# Altium footprint library CON-ILUMINATION.PCBLIB: 16 footprints
Each footprint in its own frame and in the unit in brackets; x right, y up, seen from the top. Pads: shape width x height; smd on the part's side, far side on the other; paste and mask are expansions set on the pad; w line width, h text height; cw(c..) or ccw(c..) is an arc to the next point about the centre after c.
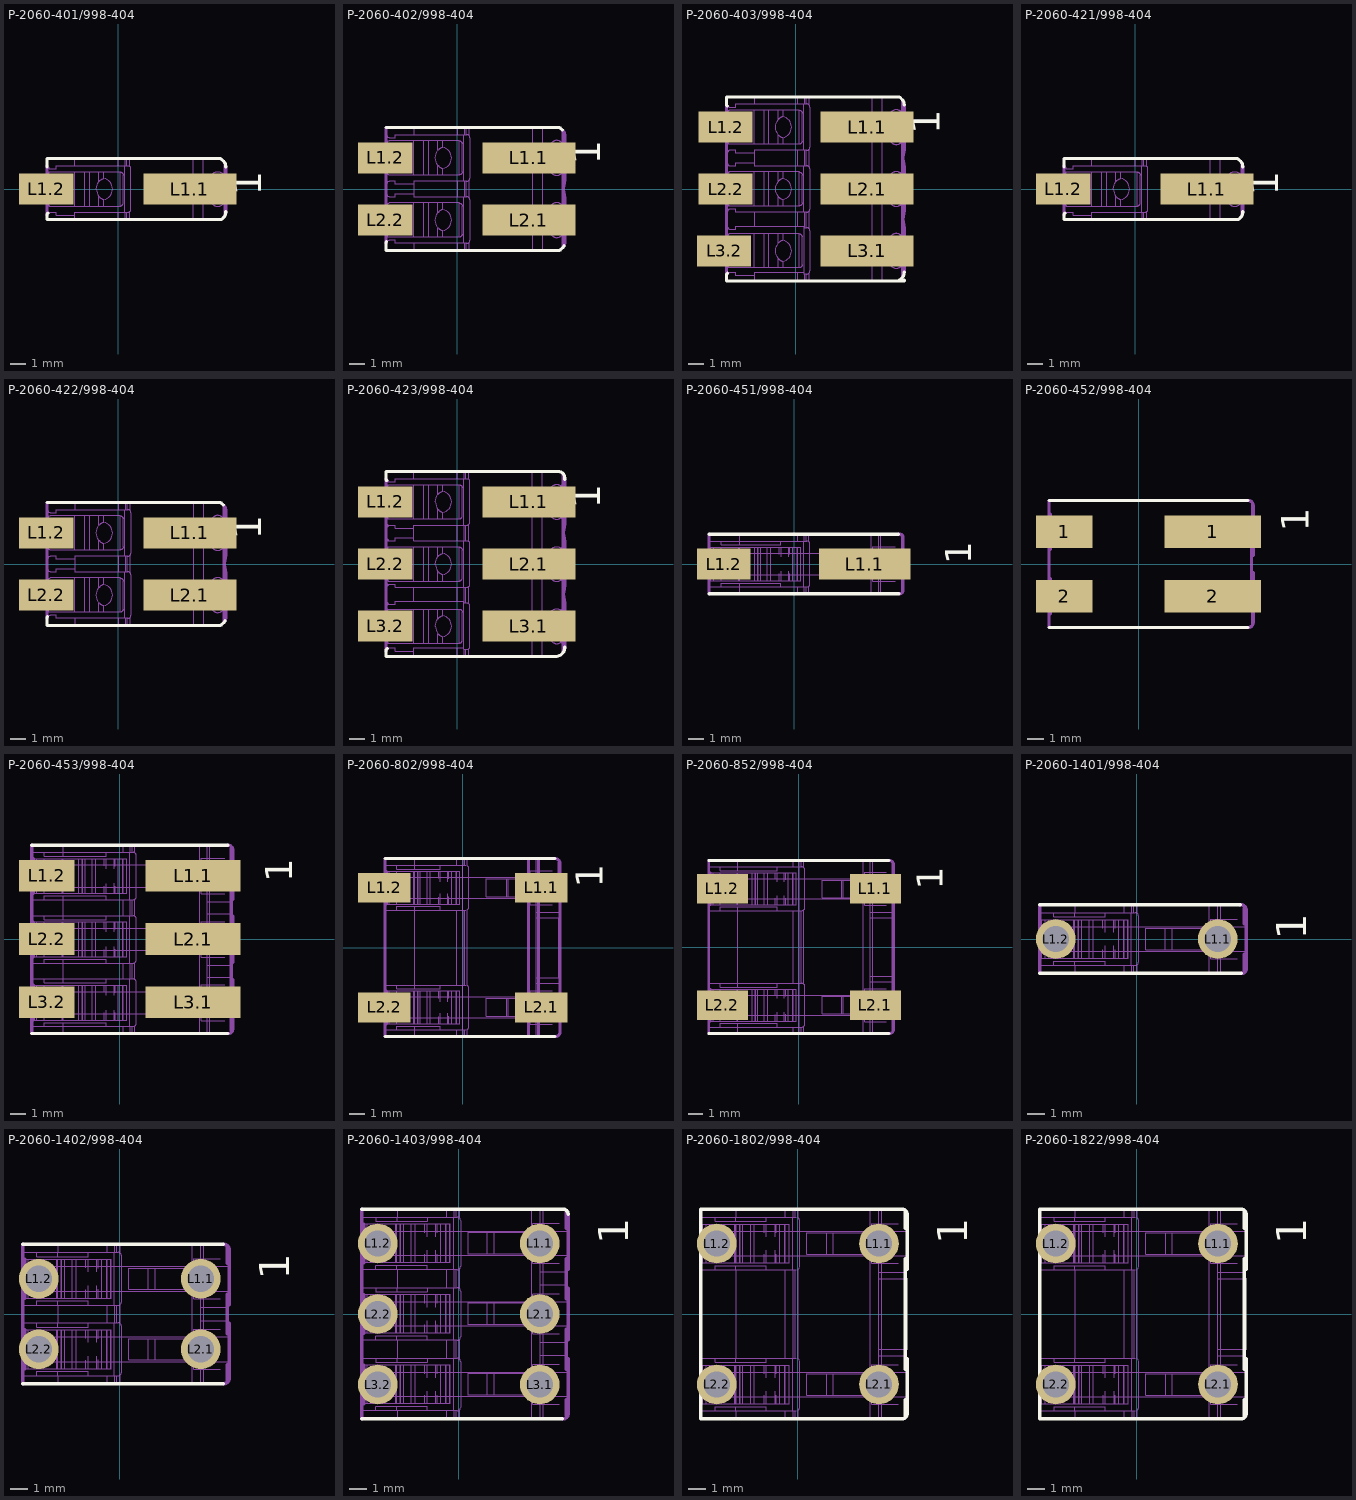
[diagram p0: the footprints below, top view; thin cyan lines are the x and y axes]

## P-2060-401/998-404 [mm]
pads (2):
  rect 6x2 smd: L1.1(4.625,0)
  rect 3.5x2 smd: L1.2(-4.625,0)
Top Overlay:
  lines w0.01: -4.563,1.432 -4.557,1.417 -4.55,1.403
  lines w0.2: -4.563,1.432 -4.568,1.447 -4.57,1.455 -4.571,1.462 -4.574,1.478 -4.575,1.493 -4.575,1.5 -4.575,1.95 6.6,1.95 6.639,1.921 6.716,1.857 6.789,1.784 6.824,1.745 6.831,1.738 6.841,1.724 6.852,1.709 6.856,1.702 6.861,1.695 6.87,1.68 6.878,1.664 6.886,1.647 6.893,1.63 6.899,1.613 6.901,1.604 6.904,1.595 6.909,1.577 6.913,1.558 6.917,1.539 6.919,1.52 6.922,1.5 6.923,1.49 6.923,1.48 6.924,1.46 6.925,1.44 6.925,1.43 ; -4.507,-1.55 -4.52,-1.562 -4.526,-1.568 -4.531,-1.575 -4.541,-1.589 -4.55,-1.602 -4.557,-1.617 -4.563,-1.632 -4.568,-1.647 -4.57,-1.655 -4.571,-1.662 -4.574,-1.678 -4.575,-1.693 -4.575,-1.7 -4.575,-1.95 6.664,-1.95 6.692,-1.926 6.746,-1.875 6.799,-1.819 6.824,-1.789 6.831,-1.782 6.841,-1.767 6.852,-1.753 6.856,-1.745 6.861,-1.738 6.87,-1.722 6.878,-1.706 6.886,-1.689 6.893,-1.671 6.899,-1.654 6.902,-1.644 6.904,-1.635 6.909,-1.616 6.913,-1.597 6.917,-1.578 6.92,-1.558 6.922,-1.538 6.923,-1.527 6.923,-1.517 6.924,-1.497 6.925,-1.477 6.925,-1.466
  text "1" at 9.825,-0.45 h3.1
Mechanical 16:
  drawing of 700 lines, arcs and shapes, not listed

## P-2060-402/998-404 [mm]
pads (4):
  rect 6x2 smd: L1.1(4.625,2) L2.1(4.625,-2)
  rect 3.5x2 smd: L1.2(-4.625,2) L2.2(-4.625,-2)
Top Overlay:
  lines w0.2: -4.575,3.95 6.6,3.95 6.639,3.921 6.716,3.857 6.789,3.784 ; -4.531,-3.375 -4.541,-3.388 -4.55,-3.403 -4.557,-3.417 -4.563,-3.432 -4.568,-3.447 -4.57,-3.455 -4.571,-3.463 -4.574,-3.478 -4.575,-3.492 -4.575,-3.5 -4.575,-3.95 6.6,-3.95 6.639,-3.921 6.716,-3.857 6.789,-3.784 6.824,-3.745 6.831,-3.738 6.841,-3.724 6.852,-3.709 6.856,-3.702 6.861,-3.695 6.87,-3.68 6.878,-3.664 6.886,-3.647
  text "1" at 9.825,1.55 h3.1
Mechanical 16:
  drawing of 1592 lines, arcs and shapes, not listed

## P-2060-403/998-404 [mm]
pads (6):
  rect 6x2 smd: L1.1(4.625,4) L2.1(4.625,0) L3.1(4.625,-4)
  rect 3.5x2 smd: L1.2(-4.525,4) L2.2(-4.525,0) L3.2(-4.625,-4)
Top Overlay:
  lines w0.2: -4.42,5.362 -4.425,5.368 -4.431,5.375 -4.441,5.388 -4.45,5.403 -4.457,5.417 -4.463,5.432 -4.468,5.447 -4.47,5.455 -4.471,5.463 -4.474,5.478 -4.475,5.492 -4.475,5.5 -4.475,5.95 6.701,5.95 6.739,5.921 6.815,5.857 6.889,5.784 6.925,5.745 6.93,5.738 6.942,5.724 6.952,5.709 6.956,5.702 6.961,5.695 6.97,5.68 6.978,5.664 6.986,5.647 6.993,5.63 6.999,5.613 7.002,5.604 7.004,5.595 7.009,5.577 7.013,5.558 7.017,5.539 7.02,5.52 7.022,5.5 7.023,5.49 7.023,5.48 7.024,5.46 7.025,5.44 7.025,5.43 ; -4.393,-5.439 -4.407,-5.45 -4.42,-5.462 -4.425,-5.468 -4.431,-5.475 -4.441,-5.488 -4.45,-5.502 -4.457,-5.517 -4.463,-5.532 -4.468,-5.547 -4.47,-5.555 -4.471,-5.562 -4.474,-5.578 -4.475,-5.593 -4.475,-5.6 -4.475,-5.95 7.025,-5.95 7.025,-5.9 6.701,-5.9 6.739,-5.87 6.816,-5.804 6.889,-5.729 6.925,-5.689 6.93,-5.682 6.942,-5.668 6.952,-5.653 6.956,-5.645 6.961,-5.638 6.97,-5.622 6.978,-5.606 6.986,-5.589 6.993,-5.571 6.999,-5.553 7.002,-5.544 7.004,-5.535 7.009,-5.516 7.013,-5.497 7.017,-5.478 7.02,-5.458 7.022,-5.438 7.023,-5.427 7.023,-5.417 7.024,-5.397 7.025,-5.376 7.025,-5.366 ; 6.925,-5.95 6.925,-5.9
  text "1" at 9.925,3.55 h3.1
Mechanical 16:
  drawing of 2369 lines, arcs and shapes, not listed

## P-2060-421/998-404 [mm]
pads (2):
  rect 6x2 smd: L1.1(4.625,0)
  rect 3.5x2 smd: L1.2(-4.625,0)
Top Overlay:
  lines w0.01: -4.563,1.432 -4.557,1.417 -4.55,1.403
  lines w0.2: -4.563,1.432 -4.568,1.447 -4.57,1.455 -4.571,1.462 -4.574,1.478 -4.575,1.493 -4.575,1.5 -4.575,1.95 6.6,1.95 6.639,1.921 6.716,1.857 6.789,1.784 6.824,1.745 6.831,1.738 6.841,1.724 6.852,1.709 6.856,1.702 6.861,1.695 6.87,1.68 6.878,1.664 6.886,1.647 6.893,1.63 6.899,1.613 6.901,1.604 6.904,1.595 6.909,1.577 6.913,1.558 6.917,1.539 6.919,1.52 6.922,1.5 6.923,1.49 6.923,1.48 6.924,1.46 6.925,1.44 6.925,1.43 ; -4.507,-1.55 -4.52,-1.562 -4.526,-1.568 -4.531,-1.575 -4.541,-1.589 -4.55,-1.602 -4.557,-1.617 -4.563,-1.632 -4.568,-1.647 -4.57,-1.655 -4.571,-1.662 -4.574,-1.678 -4.575,-1.693 -4.575,-1.7 -4.575,-1.95 6.664,-1.95 6.692,-1.926 6.746,-1.875 6.799,-1.819 6.824,-1.789 6.831,-1.782 6.841,-1.767 6.852,-1.753 6.856,-1.745 6.861,-1.738 6.87,-1.722 6.878,-1.706 6.886,-1.689 6.893,-1.671 6.899,-1.654 6.902,-1.644 6.904,-1.635 6.909,-1.616 6.913,-1.597 6.917,-1.578 6.92,-1.558 6.922,-1.538 6.923,-1.527 6.923,-1.517 6.924,-1.497 6.925,-1.477 6.925,-1.466
  text "1" at 9.825,-0.45 h3.1
Mechanical 16:
  drawing of 700 lines, arcs and shapes, not listed

## P-2060-422/998-404 [mm]
pads (4):
  rect 6x2 smd: L1.1(4.625,2) L2.1(4.625,-2)
  rect 3.5x2 smd: L1.2(-4.625,2) L2.2(-4.625,-2)
Top Overlay:
  lines w0.2: -4.575,3.95 6.6,3.95 6.639,3.921 6.716,3.857 6.789,3.784 ; -4.531,-3.375 -4.541,-3.388 -4.55,-3.403 -4.557,-3.417 -4.563,-3.432 -4.568,-3.447 -4.57,-3.455 -4.571,-3.463 -4.574,-3.478 -4.575,-3.492 -4.575,-3.5 -4.575,-3.95 6.6,-3.95 6.639,-3.921 6.716,-3.857 6.789,-3.784 6.824,-3.745 6.831,-3.738 6.841,-3.724 6.852,-3.709 6.856,-3.702 6.861,-3.695 6.87,-3.68 6.878,-3.664 6.886,-3.647
  text "1" at 9.825,1.55 h3.1
Mechanical 16:
  drawing of 1592 lines, arcs and shapes, not listed

## P-2060-423/998-404 [mm]
pads (6):
  rect 6x2 smd: L1.1(4.625,4) L2.1(4.625,0) L3.1(4.625,-4)
  rect 3.5x2 smd: L1.2(-4.625,4) L2.2(-4.625,0) L3.2(-4.625,-4)
Top Overlay:
  lines w0.2: -4.52,5.362 -4.526,5.368 -4.531,5.375 -4.541,5.388 -4.55,5.403 -4.557,5.417 -4.563,5.432 -4.568,5.447 -4.57,5.455 -4.571,5.463 -4.574,5.478 -4.575,5.492 -4.575,5.5 -4.575,5.95 6.525,5.95 cw(c6.525,5.55) 6.925,5.55 6.925,5.45 ; -4.493,-5.439 -4.507,-5.45 -4.52,-5.462 -4.526,-5.468 -4.531,-5.475 -4.541,-5.488 -4.55,-5.502 -4.557,-5.517 -4.563,-5.532 -4.568,-5.547 -4.57,-5.555 -4.571,-5.562 -4.574,-5.578 -4.575,-5.593 -4.575,-5.6 -4.575,-5.95 6.325,-5.95 ccw(c6.325,-5.35) 6.925,-5.35 ; 6.716,-5.804 6.789,-5.729 6.824,-5.689 6.831,-5.682 6.841,-5.668 6.852,-5.653 6.856,-5.645 6.861,-5.638 6.87,-5.622 6.878,-5.606 6.886,-5.589 6.893,-5.571 6.899,-5.553 6.902,-5.544 6.904,-5.535 6.909,-5.516 6.913,-5.497 6.917,-5.478 6.92,-5.458 6.922,-5.438 6.923,-5.427 6.923,-5.417 6.924,-5.397 6.925,-5.376 6.925,-5.366 ; 6.922,5.5 6.923,5.49 6.923,5.48 6.924,5.46 6.925,5.44 6.925,5.43
  text "1" at 9.825,3.55 h3.1
Mechanical 16:
  drawing of 2363 lines, arcs and shapes, not listed

## P-2060-451/998-404 [mm]
pads (2):
  rect 6x2 smd: L1.1(4.625,0)
  rect 3.5x2 smd: L1.2(-4.625,0)
Top Overlay:
  lines w0.2: -5.575,-1.95 6.864,-1.95 ; -5.575,1.95 6.8,1.95 ; 6.815,1.95 6.835,1.95
  text "1" at 11.575,0 h1.7
Mechanical 16:
  lines w0.01: -5.825,-0.6 -5.825,0.6 ; -5.575,-1.5 -4.775,-1.5 ; -5.575,-0.7 7.125,-0.7 ; -5.575,-0.6 -3.714,-0.6 -3.714,0.6 -5.575,0.6 ; -5.575,0.7 7.125,0.7 ; -5.575,1.5 -4.775,1.5 ; -5.275,-1.1 -5.275,1.1 ; -4.775,-1.1 -4.775,1.1 ; -4.275,-0.6 -4.275,0.6 ; -3.747,-0.6 -3.747,0.6 ; -3.634,-1.1 -3.634,1.1 ; -3.599,-1.1 -3.599,1.1 ; -3.59,-1.25 -3.59,-1.5 ; -3.59,-1.1 -3.59,1.1 ; -3.59,1.25 -3.59,1.5 ; -3.575,-1.95 -3.575,-1.5 ; -3.575,1.5 -3.575,1.95 ; -2.592,-1.1 -2.592,1.1 ; -2.382,-1.1 -2.382,1.1 ; -2.353,-1.1 -2.353,1.1 ; -2.21,-1.1 -2.21,1.1 ; -1.759,-1.1 -1.759,1.1 ; -1.54,1.1 -1.54,-1.1 ; -0.992,-0.647 -0.992,-1.1 ; -0.992,0.647 -0.992,1.1 ; -0.873,-1.1 -0.873,-0.47 ; -0.873,0.47 -0.873,1.1 ; -0.374,-1.1 -0.374,-0.469 ; -0.374,0.469 -0.374,1.1 ; -0.296,-1.1 -0.296,-0.634 ; -0.296,0.634 -0.296,1.1 ; -0.111,-1.1 -0.111,1.1 ; 0.183,-1.1 0.183,1.1 ; 0.212,-1.1 0.212,1.1 ; 0.219,-1.95 0.219,-1.5 ; 0.219,1.5 0.219,1.95 ; 0.423,1.1 0.423,-1.1 ; 0.625,-1.5 0.625,1.5 ; 0.652,-1.95 0.652,-1.5 ; 0.652,1.5 0.652,1.95 ; 0.767,-1.95 0.767,-1.5 ; 0.767,1.5 0.767,1.95 ; 0.941,-1.95 0.941,-1.463 ; 0.941,1.95 0.941,1.463 ; 3.574,0.6 3.574,-0.6 ; 3.679,0.6 3.679,-0.6 ; 5.025,-1.95 5.025,1.95 ; 5.525,-1.95 5.525,-0.7 ; 5.525,0.7 5.525,1.95 ; 5.675,-1.95 5.675,1.95 ; 6.613,-1.125 5.125,-1.125 5.125,1.125 6.613,1.125 ; 6.835,1.95 cw(c6.835,1.76) 7.025,1.76 ; 6.875,-1.95 ccw(c6.875,-1.8) 7.025,-1.8 ; 6.975,0.6 6.975,-0.6 ; 7.025,-1.789 7.025,-0.87 ; 7.025,0.87 7.025,1.745 ; 7.125,-0.6 6.975,-0.6 ; 7.125,0.6 2.208,0.6 2.208,-0.6 3.574,-0.6 ; -4.775,-1.5 -3.59,-1.5 ; -4.775,-1.5 -4.775,-1.25 -0.875,-1.25 -0.875,-1.5 ; -4.775,1.5 -3.59,1.5 ; -4.775,1.5 -4.775,1.25 -0.875,1.25 -0.875,1.5 ; -3.59,-1.5 -0.875,-1.5 ; -3.59,1.5 -0.875,1.5 ; -1.54,-1.1 -0.992,-1.1 ; -1.54,-1.1 -5.475,-1.1 -5.475,1.1 -0.992,1.1 ; -0.992,-1.1 0.423,-1.1 ; -0.992,1.1 0.433,1.1 0.433,-1.1 0.423,-1.1 ; -0.875,-1.5 0.825,-1.5 ccw(c0.825,-1.3) 0.941,-1.463 ; -0.875,1.5 0.825,1.5 cw(c0.825,1.3) 0.941,1.463 ; 0.941,-1.463 ccw(c0.825,-1.3) 1.025,-1.3 ; 0.941,-1.463 ccw(c0.825,-1.3) 1.025,-1.3 ; 0.941,1.463 cw(c0.825,1.3) 1.025,1.3 ; 0.941,1.463 cw(c0.825,1.3) 1.025,1.3 ; 1.025,-1.3 1.025,1.3 ; 3.574,-0.6 3.679,-0.6 ; 3.679,-0.6 6.975,-0.6
  lines w0.2: -5.575,-1.95 -5.575,-0.6 ; -5.575,1.95 -5.575,0.6 ; 6.835,1.95 6.925,1.95 cw(c6.925,1.75) 7.125,1.75 ; 6.895,-1.95 ccw(c6.895,-1.72) 7.125,-1.72 7.125,1.73 ; -5.575,-0.6 -5.575,0.6 ; -5.575,-0.6 -5.975,-0.6 -5.975,0.6 -5.575,0.6

## P-2060-452/998-404 [mm]
pads (4):
  rect 3.5x2 smd: 1(-4.625,2) 2(-4.625,-2)
  rect 6x2 smd: 1(4.625,2) 2(4.625,-2)
Top Overlay:
  lines w0.2: -5.575,-3.95 6.8,-3.95 ; -5.575,3.95 6.8,3.95
  text "1" at 10.575,2 h1.7
Mechanical 16:
  lines w0.01: 7.025,-3.745 7.025,-2.87 ; 7.025,2.87 7.025,3.745
  lines w0.2: -5.825,-2.6 -5.825,-1.4 ; -5.825,1.4 -5.825,2.6 ; -5.575,-3.95 -5.575,-2.6 ; -5.575,3.95 -5.575,2.6 ; -5.475,-3.1 -5.475,-0.9 ; -5.475,0.9 -5.475,3.1 ; 6.825,-3.95 ccw(c6.825,-3.65) 7.125,-3.65 7.125,-0.534 ; 6.825,3.95 cw(c6.825,3.65) 7.125,3.65 7.125,0.534 ; 7.025,-1.13 7.025,1.13 ; -5.575,-2.6 -5.575,-1.4 ; -5.575,-2.6 -5.975,-2.6 -5.975,-1.4 -5.575,-1.4 ; -5.575,-1.4 -5.575,1.4 ; -5.575,1.4 -5.575,2.6 ; -5.575,1.4 -5.975,1.4 -5.975,2.6 -5.575,2.6
3D body "2060-452_998-404.stp": height 4.51, standoff 0.01, extent -5.85,-3.95 7.25,3.95

## P-2060-453/998-404 [mm]
pads (6):
  rect 6x2 smd: L1.1(4.625,4) L2.1(4.625,0) L3.1(4.625,-4)
  rect 3.5x2 smd: L1.2(-4.625,4) L2.2(-4.625,0) L3.2(-4.625,-4)
Top Overlay:
  lines w0.2: -5.569,-5.975 6.806,-5.975 ; -5.569,5.925 6.806,5.925
  text "1" at 10.875,3.6 h1.7
Mechanical 16:
  drawing of 286 lines, arcs and shapes, not listed

## P-2060-802/998-404 [mm]
pads (4):
  rect 3.5x2 smd: L1.1(5.25,4) L1.2(-5.25,4) L2.1(5.25,-4) L2.2(-5.25,-4)
Top Overlay:
  lines w0.2: -5.2,-5.95 6.176,-5.95 ; -5.2,5.95 6.176,5.95
  text "1" at 9.95,4 h3.1
Mechanical 16:
  drawing of 185 lines, arcs and shapes, not listed

## P-2060-852/998-404 [mm]
pads (4):
  rect 3.5x2 smd: L1.1(5.25,4) L1.2(-5.25,4) L2.1(5.25,-4) L2.2(-5.25,-4)
Top Overlay:
  lines w0.2: -6.19,-5.95 6.185,-5.95 ; -6.19,5.95 6.185,5.95
  text "1" at 10.51,3.95 h3.1
Mechanical 16:
  drawing of 199 lines, arcs and shapes, not listed

## P-2060-1401/998-404 [mm]
pads (2):
  round 2.25 hole 1.5: L1.1(4.595,0) L1.2(-4.595,0)
Top Overlay:
  lines w0.2: -5.505,-1.95 5.934,-1.95 ; -5.505,1.95 5.87,1.95
  text "1" at 9.595,-0.05 h1.7
Mechanical 16:
  lines w0.01: -5.505,-1.5 -4.705,-1.5 ; -5.505,-0.7 6.195,-0.7 ; -5.505,0.7 6.195,0.7 ; -5.505,1.5 -4.705,1.5 ; -5.205,-1.1 -5.205,1.1 ; -4.74,-0.6 -4.74,0.6 ; -4.705,-1.1 -4.705,1.1 ; -4.455,-0.6 -4.455,-0.4 ; -4.455,0.6 -4.455,0.4 ; -3.579,-1.1 -3.579,1.1 ; -3.52,-1.25 -3.52,-1.5 ; -3.52,-1.1 -3.52,1.1 ; -3.52,1.25 -3.52,1.5 ; -3.515,-1.1 -3.515,1.1 ; -3.505,-1.95 -3.505,-1.5 ; -3.505,1.5 -3.505,1.95 ; -3.31,-1.1 -3.31,1.1 ; -3.281,-1.1 -3.281,1.1 ; -3.138,-1.1 -3.138,1.1 ; -2.688,-1.1 -2.688,1.1 ; -2.469,1.1 -2.469,-1.1 ; -1.921,-0.618 -1.921,-1.1 ; -1.921,0.618 -1.921,1.1 ; -1.802,-1.1 -1.802,-0.394 ; -1.802,0.394 -1.802,1.1 ; -1.302,-1.1 -1.302,-0.394 ; -1.302,0.394 -1.302,1.1 ; -1.225,-1.1 -1.225,-0.603 ; -1.225,0.603 -1.225,1.1 ; -1.04,-1.1 -1.04,1.1 ; -0.745,-1.1 -0.745,1.1 ; -0.716,-1.1 -0.716,1.1 ; -0.711,-1.95 -0.711,-1.5 ; -0.711,1.5 -0.711,1.95 ; -0.506,1.1 -0.506,-1.1 ; -0.305,-1.5 -0.305,1.5 ; -0.278,-1.95 -0.278,-1.5 ; -0.278,1.5 -0.278,1.95 ; -0.163,-1.95 -0.163,-1.5 ; -0.163,1.5 -0.163,1.95 ; 0.01,-1.95 0.01,-1.463 ; 0.01,1.95 0.01,1.463 ; 1.622,-0.6 1.622,0.6 ; 1.995,-0.6 1.995,0.6 ; 3.995,-0.6 3.995,0.6 ; 4.095,-1.95 4.095,1.95 ; 4.445,0.6 4.445,0.4 ; 4.595,-1.95 4.595,-0.7 ; 4.595,0.7 4.595,1.95 ; 4.744,-1.95 4.744,1.95 ; 5.683,-1.125 4.195,-1.125 4.195,1.125 5.683,1.125 ; -4.755,-0.4 -4.455,-0.4 ; -4.755,-0.4 -4.755,0.4 ; -4.755,-0.4 -4.755,-0.6 -4.429,-0.6 -4.429,0.6 -4.755,0.6 -4.755,0.4 ; -4.755,0.4 -4.455,0.4 ; -4.705,-1.5 -4.705,-1.25 -1.805,-1.25 -1.805,-1.5 ; -4.705,-1.5 -3.52,-1.5 ; -4.705,1.5 -4.705,1.25 -1.805,1.25 -1.805,1.5 ; -4.705,1.5 -3.52,1.5 ; -4.455,-0.4 -4.455,0.4 ; -3.52,-1.5 -1.805,-1.5 ; -3.52,1.5 -1.805,1.5 ; -2.469,-1.1 -5.405,-1.1 -5.405,1.1 -1.921,1.1 ; -2.469,-1.1 -1.921,-1.1 ; -1.921,-1.1 -0.506,-1.1 ; -1.921,1.1 -0.496,1.1 -0.496,-1.1 -0.506,-1.1 ; -1.805,-1.5 -0.105,-1.5 ccw(c-0.105,-1.3) 0.01,-1.463 ; -1.805,1.5 -0.105,1.5 cw(c-0.105,1.3) 0.01,1.463 ; 0.01,-1.463 ccw(c-0.105,-1.3) 0.095,-1.3 ; 0.01,-1.463 ccw(c-0.105,-1.3) 0.095,-1.3 ; 0.01,1.463 cw(c-0.105,1.3) 0.095,1.3 ; 0.01,1.463 cw(c-0.105,1.3) 0.095,1.3 ; 0.095,-1.3 0.095,1.3 ; 4.445,-0.6 4.445,-0.4 ; 4.445,-0.6 0.502,-0.6 0.502,0.6 4.745,0.6 4.745,0.4 ; 4.445,-0.6 4.745,-0.6 4.745,-0.4 ; 4.445,-0.4 4.745,-0.4 ; 4.445,-0.4 4.445,0.4 ; 4.445,0.4 4.745,0.4 ; 4.745,-0.4 4.745,0.4
  lines w0.2: -5.505,-1.95 -5.505,1.95 ; 5.875,1.95 cw(c5.875,1.63) 6.195,1.63 6.195,1.44 ; 5.945,-1.95 ccw(c5.945,-1.7) 6.195,-1.7 6.195,-1.48 ; 6.094,-1.789 6.094,-0.87 ; 6.094,0.87 6.094,1.745 ; 6.195,-1.466 6.195,1.43

## P-2060-1402/998-404 [mm]
pads (4):
  round 2.25 hole 1.5: L1.1(4.595,2) L1.2(-4.595,2) L2.1(4.595,-2) L2.2(-4.595,-2)
Top Overlay:
  lines w0.2: -5.505,-3.95 5.87,-3.95 ; -5.505,3.95 5.87,3.95
  text "1" at 9.595,1.95 h1.7
Mechanical 16:
  drawing of 206 lines, arcs and shapes, not listed

## P-2060-1403/998-404 [mm]
pads (6):
  round 2.25 hole 1.5: L1.1(4.595,4) L1.2(-4.595,4) L2.1(4.595,0) L2.2(-4.595,0) L3.1(4.595,-4) L3.2(-4.595,-4)
Top Overlay:
  lines w0.2: -5.505,-5.95 5.87,-5.95 ; -5.505,5.95 5.87,5.95 ; 5.895,5.95 cw(c5.895,5.65) 6.195,5.65
  text "1" at 9.595,3.95 h1.7
Mechanical 16:
  drawing of 303 lines, arcs and shapes, not listed

## P-2060-1802/998-404 [mm]
pads (4):
  round 2.25 hole 1.5: L1.1(4.6,4) L1.2(-4.6,4) L2.1(4.6,-4) L2.2(-4.6,-4)
Top Overlay:
  lines w0.2: 5.876,-5.95 -5.5,-5.95 -5.5,5.95 5.876,5.95 ; 5.9,-5.95 ccw(c5.9,-5.65) 6.2,-5.65 6.2,-5.45 ; 5.9,5.95 cw(c5.9,5.65) 6.2,5.65 6.2,5.45 ; 6.1,-5.745 6.1,-4.87 ; 6.1,-3.13 6.1,3.13 ; 6.1,4.87 6.1,5.745 ; 6.122,-2 6.122,2 ; 6.2,-5.43 6.2,-2.534 ; 6.2,2.534 6.2,5.43
  text "1" at 9.6,3.95 h1.7
Mechanical 16:
  drawing of 184 lines, arcs and shapes, not listed

## P-2060-1822/998-404 [mm]
pads (4):
  round 2.25 hole 1.5: L1.1(4.6,4) L1.2(-4.6,4) L2.1(4.6,-4) L2.2(-4.6,-4)
Top Overlay:
  lines w0.2: 5.876,-5.95 -5.5,-5.95 -5.5,5.95 5.876,5.95 ; 5.9,-5.95 ccw(c5.9,-5.65) 6.2,-5.65 6.2,-5.45 ; 5.9,5.95 cw(c5.9,5.65) 6.2,5.65 6.2,5.45 ; 6.1,-5.745 6.1,-4.87 ; 6.1,-3.13 6.1,3.13 ; 6.1,4.87 6.1,5.745 ; 6.122,-2 6.122,2 ; 6.2,-5.43 6.2,-2.534 ; 6.2,2.534 6.2,5.43
  text "1" at 9.6,3.95 h1.7
Mechanical 16:
  drawing of 184 lines, arcs and shapes, not listed